# EAGLE library part ISL3159E (library isl3159e)
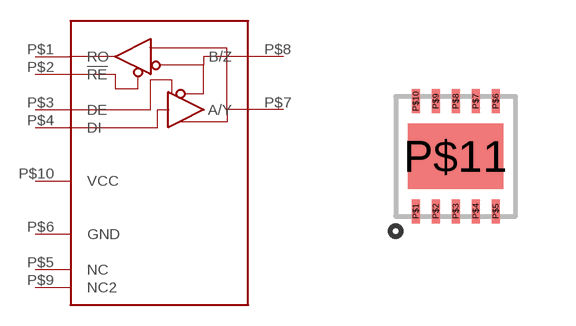
[diagram p0: symbol with the pads of DFN10; footprint DFN10]

Designator prefix -

## ISL3159E  [DFN10]
P$1  RO
P$2  !RE
P$3  DE
P$4  DI
P$5  NC
P$6  GND
P$7  A/Y
P$8  B/Z
P$9  NC2
P$10  VCC

## Footprint DFN10 (pad centres in mm)
smd 0.2 x 0.6: P$1 -1,-1.375; P$2 -0.5,-1.375; P$3 0,-1.375; P$4 0.5,-1.375; P$5 1,-1.375; P$6 1,1.375; P$7 0.5,1.375; P$8 0,1.375; P$9 -0.5,1.375; P$10 -1,1.375
smd 2.38 x 1.64: P$11 0,0